# Altium footprint library Photocoupler.PcbLib: 1 footprints
Each footprint in its own frame and in the unit in brackets; x right, y up, seen from the top. Pads: shape width x height; smd on the part's side, far side on the other; paste and mask are expansions set on the pad; w line width, h text height; cw(c..) or ccw(c..) is an arc to the next point about the centre after c.
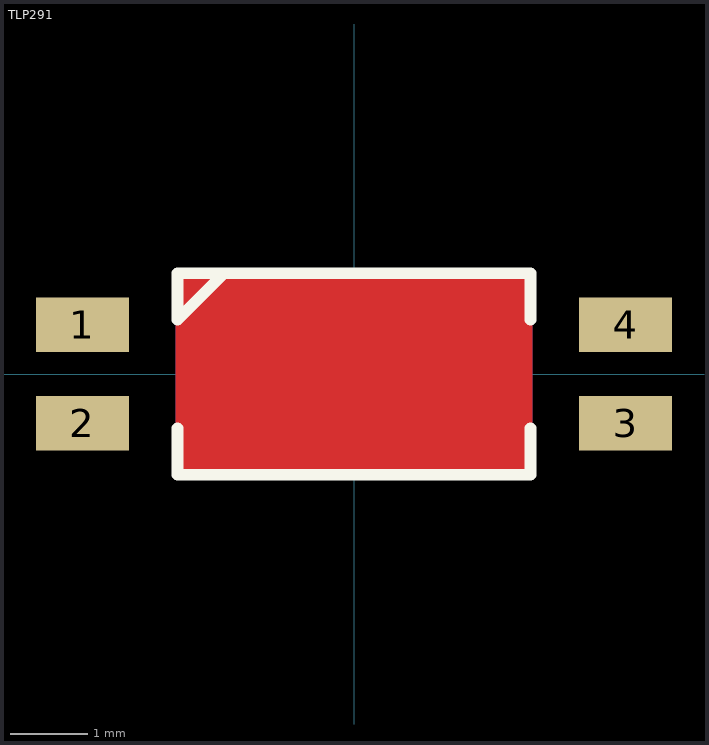
[diagram p0: the footprint, top view; thin cyan lines are the x and y axes]

## TLP291 [mm]
pads (4):
  rect 1.2x0.7 smd: 1(-3.5,0.635) 2(-3.5,-0.635) 3(3.5,-0.635) 4(3.5,0.635)
Top Layer:
  pour cut-out: -2.3,1.3 -2.3,-1.3 2.3,-1.3 2.3,1.3
Bottom Layer:
  pour cut-out: -2.3,1.3 -2.3,-1.3 2.3,-1.3 2.3,1.3
Top Overlay:
  lines w0.15: -2.275,-0.7 -2.275,-1.3 2.275,-1.3 2.275,-0.7 ; -1.6,1.3 -1.675,1.3 -2.275,0.7 -2.275,1.3 2.275,1.3 2.275,0.7
3D body "TLP291.stp": height 2.2, standoff 0, extent -3.5,-1.35 3.5,1.35